# Altium footprint library RS-32.PcbLib: 1 footprints
Each footprint in its own frame and in the unit in brackets; x right, y up, seen from the top. Pads: shape width x height; smd on the part's side, far side on the other; paste and mask are expansions set on the pad; w line width, h text height; cw(c..) or ccw(c..) is an arc to the next point about the centre after c.
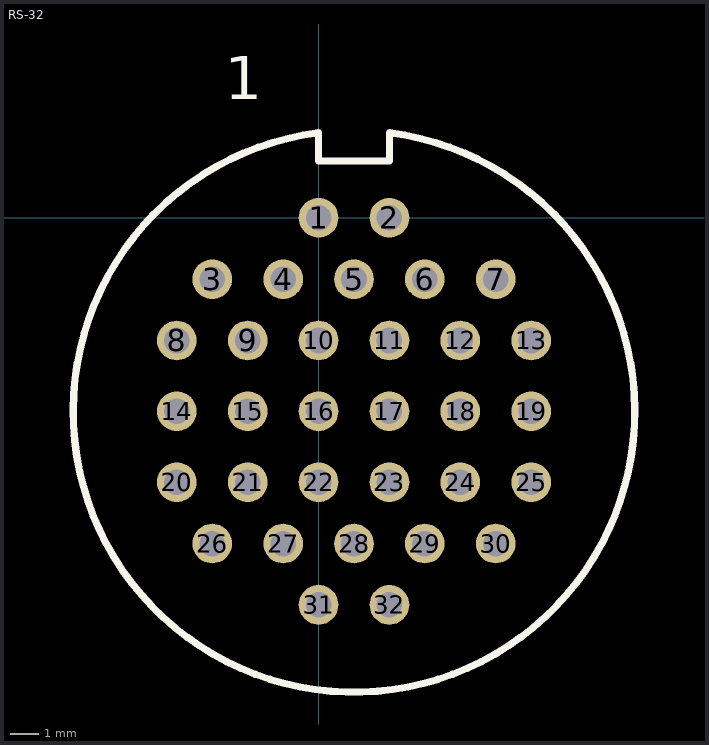
[diagram p0: the footprint, top view; thin cyan lines are the x and y axes]

## RS-32 [mm]
pads (32):
  round 1.4 hole 0.9: 1(0,0) 2(2.5,0) 3(-3.75,-2.165) 4(-1.25,-2.165) 5(1.25,-2.165) 6(3.75,-2.165) 7(6.25,-2.165) 8(-5,-4.33) 9(-2.5,-4.33) 10(0,-4.33) 11(2.5,-4.33) 12(5,-4.33) 13(7.5,-4.33) 14(-5,-6.83) 15(-2.5,-6.83) 16(0,-6.83) 17(2.5,-6.83) 18(5,-6.83) 19(7.5,-6.83) 20(-5,-9.33) 21(-2.5,-9.33) 22(0,-9.33) 23(2.5,-9.33) 24(5,-9.33) 25(7.5,-9.33) 26(-3.75,-11.495) 27(-1.25,-11.495) 28(1.25,-11.495) 29(3.75,-11.495) 30(6.25,-11.495) 31(0,-13.66) 32(2.5,-13.66)
Top Overlay:
  lines w0.254: 0,2 2.5,2 2.5,3 cw(c1.25,-6.83) 0,3 0,2
  text "1" at -3.302,4.191 h1.52